# EAGLE library part DSPIC33FJ12MC202 (library Gibbot)
dsPIC33FJ12MC202 edit this description Auto generated by make-symbol-device-package-bsdl.ulp Rev. 25 Source: dsPIC33FJ12MC202.bsd
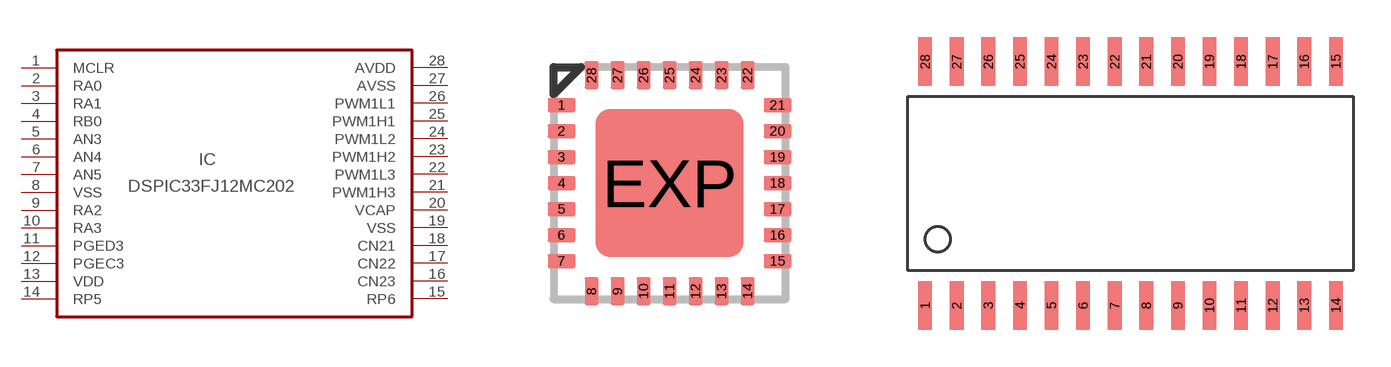
[diagram p0: symbol with the pads of QFN28-ML_6X6MM; footprints QFN28-ML_6X6MM, SOIC28-W]

Designator prefix IC

## DSPIC33FJ12MC202QFN (MPN: DSPIC33FJ12MC202-I/ML; OC_FARNELL: unknown; OC_NEWARK: 88K3897)  [QFN28-ML_6X6MM]
1  MCLR
2  RA0
3  RA1
4  RB0
5  AN3  pwr
6  AN4
7  AN5
8  VSS
9  RA2
10  RA3  pwr
11  PGED3
12  PGEC3
13  VDD
14  RP5  in
15  RP6  out
16  CN23  pwr
17  CN22  pwr
18  CN21  in
19  VSS  in
20  VCAP
21  PWM1H3
22  PWM1L3
23  PWM1H2
24  PWM1L2  pwr
25  PWM1H1  pwr
26  PWM1L1
27  AVSS
28  AVDD

## DSPIC33FJ12MC202  [SOIC28-W]
Pads as for QFN28-ML_6X6MM

## Footprint QFN28-ML_6X6MM (pad centres in mm)
QFN28-ML_6X6MM Source: http://www.microchip.com .. 39637a.pdf
smd 0.7 x 0.35: 1 -2.7,1.95; 2 -2.7,1.3; 3 -2.7,0.65; 4 -2.7,0; 5 -2.7,-0.65; 6 -2.7,-1.3; 7 -2.7,-1.95; 15 2.7,-1.95; 16 2.7,-1.3; 17 2.7,-0.65; 18 2.7,0; 19 2.7,0.65; 20 2.7,1.3; 21 2.7,1.95
smd 0.35 x 0.7: 8 -1.95,-2.7; 9 -1.3,-2.7; 10 -0.65,-2.7; 11 0,-2.7; 12 0.65,-2.7; 13 1.3,-2.7; 14 1.95,-2.7; 22 1.95,2.7; 23 1.3,2.7; 24 0.65,2.7; 25 0,2.7; 26 -0.65,2.7; 27 -1.3,2.7; 28 -1.95,2.7
smd 3.7 x 3.7: EXP 0,0

## Footprint SOIC28-W (pad centres in mm)
smd 0.55 x 1.95: 1 -8.255,-4.9; 2 -6.985,-4.9; 3 -5.715,-4.9; 4 -4.445,-4.9; 5 -3.175,-4.9; 6 -1.905,-4.9; 7 -0.635,-4.9; 8 0.635,-4.9; 9 1.905,-4.9; 10 3.175,-4.9; 11 4.445,-4.9; 12 5.715,-4.9; 13 6.985,-4.9; 14 8.255,-4.9; 15 8.255,4.9; 16 6.985,4.9; 17 5.715,4.9; 18 4.445,4.9; 19 3.175,4.9; 20 1.905,4.9; 21 0.635,4.9; 22 -0.635,4.9; 23 -1.905,4.9; 24 -3.175,4.9; 25 -4.445,4.9; 26 -5.715,4.9; 27 -6.985,4.9; 28 -8.255,4.9